# Altium footprint library Discrete_semiconductors.PcbLib: 48 footprints (part 1 of 3)
Each footprint in its own frame and in the unit in brackets; x right, y up, seen from the top. Pads: shape width x height; smd on the part's side, far side on the other; paste and mask are expansions set on the pad; w line width, h text height; cw(c..) or ccw(c..) is an arc to the next point about the centre after c.
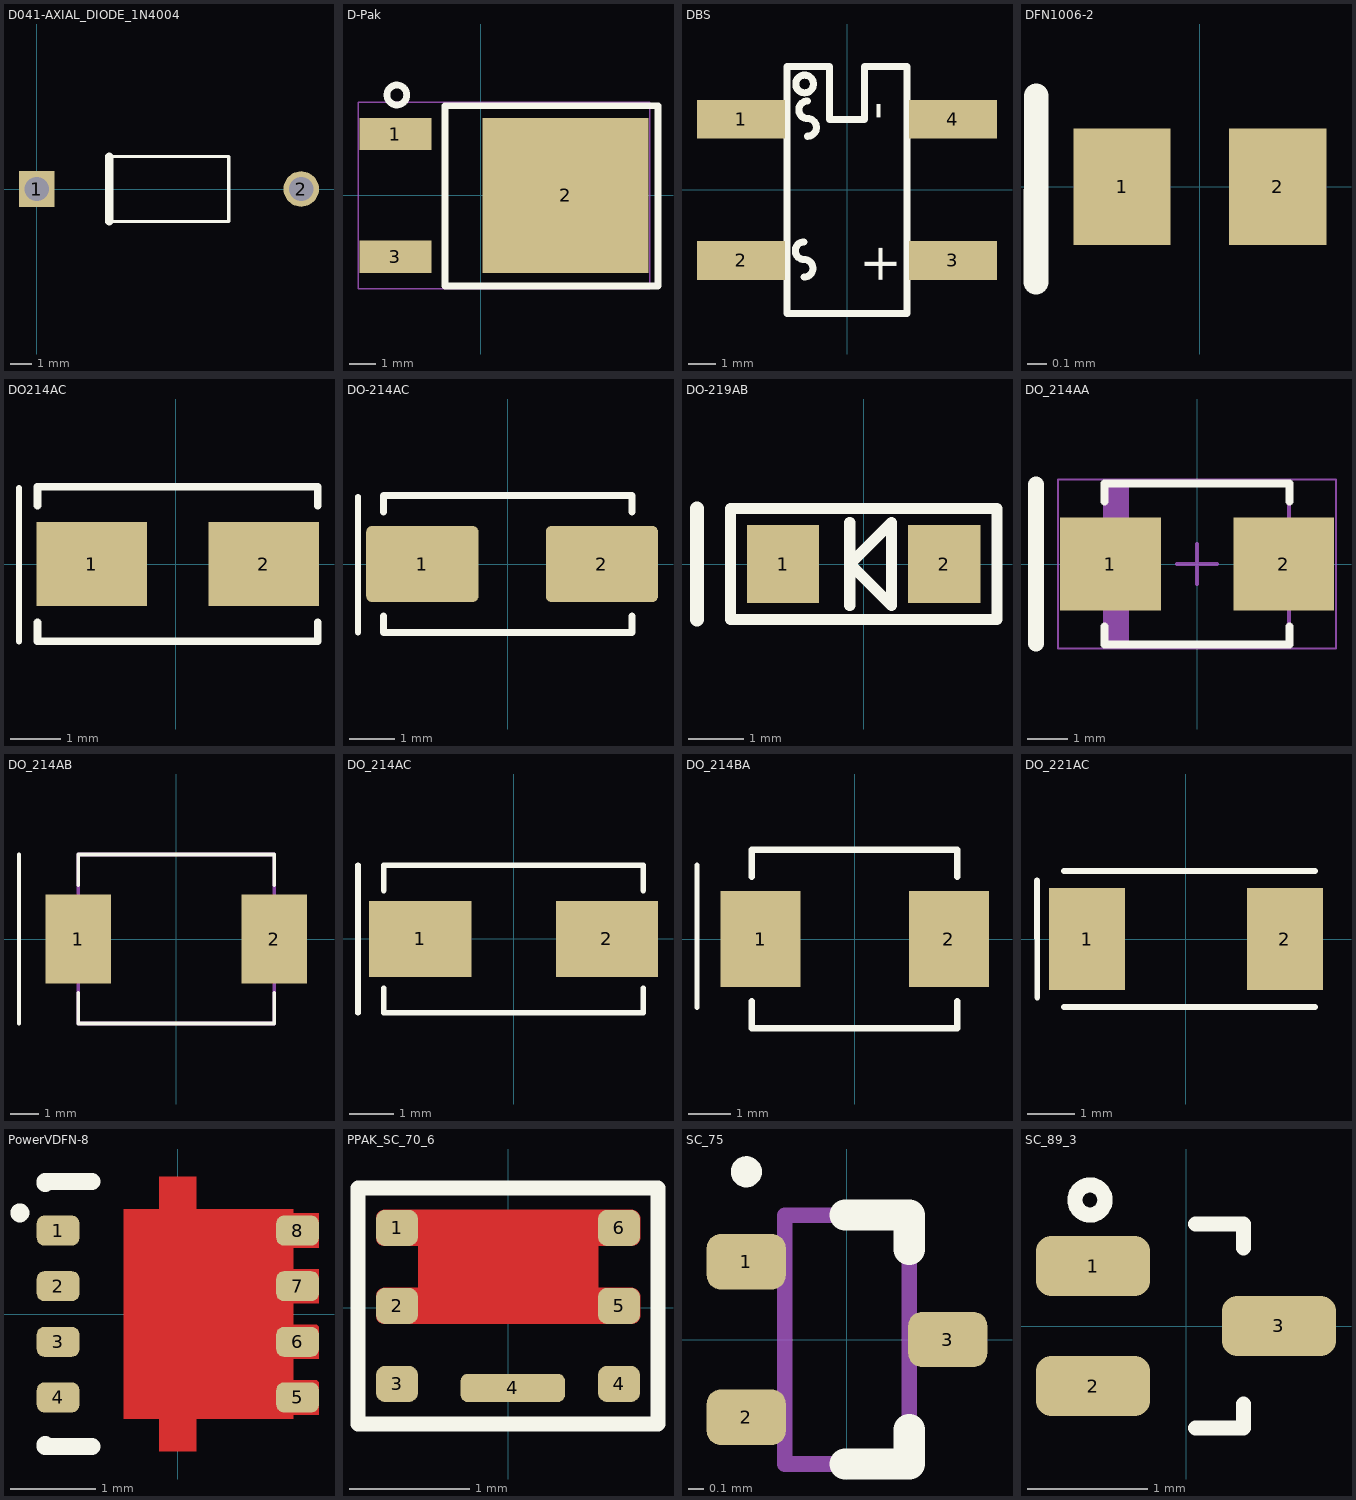
[diagram p0: the footprints below, top view; thin cyan lines are the x and y axes]

## D041-AXIAL_DIODE_1N4004 [mil] "/ 20231112 / J.Jaramillo"
pads (2):
  rect 64x64 / inner round 60 / far side rect 64x64 hole 44 paste-32 mask+0: 1(0,0)
  round 64 / inner round 60 / far side round 64 hole 44 paste-32 mask+0: 2(475.59,0)
Top Overlay:
  lines w6: 130.3,-58.5 345.3,-58.5 345.3,58.5 130.3,58.5
  lines w15: 130.3,-58.5 130.3,58.5
3D body "CR_1N4005_ONS.step": height 107.05, standoff -100, extent -17,-53.6 492.6,53.6

## D-Pak [mm] "/20200127/V-A.Patino"
pads (3):
  rect 2.7x1.2 smd: 1(-3.175,2.29) 3(-3.175,-2.29)
  rect 6.2x5.8 smd: 2(3.175,0)
Top Overlay:
  circle w0.254: c-3.125,3.75 r0.372
  lines w0.254: -1.325,-3.375 6.625,-3.375 6.625,3.35 -0.275,3.35 -1.325,3.35 -1.325,-3.375
Mechanical 15:
  lines w0.05: -4.575,-3.475 6.325,-3.475 6.325,3.475 -4.575,3.475 -4.575,-3.475
  lines w0.1: 0.375,0 1.375,0 ; 0.875,-0.5 0.875,0.5
3D body "DPAK229P990X239-3L.step": height 2.39, standoff 0, extent -4.09,-3.375 5.815,3.375

## DBS [mm] "/20200109/V-A.Patino"
pads (4):
  rect 3.173x1.4 smd: 1(-3.81,2.54) 2(-3.81,-2.54) 3(3.81,-2.54) 4(3.81,2.54)
Top Overlay:
  lines w0: -0.635,4.445 -0.635,2.54 0.635,2.54 0.635,4.445
  lines w0.254: -1.543,-3.14 ccw(c-1.543,-2.822) -1.543,-2.505 cw(c-1.543,-2.187) -1.543,-1.87 ; -1.416,1.93 ccw(c-1.416,2.248) -1.416,2.565 cw(c-1.416,2.883) -1.416,3.2 ; -2.159,-4.445 2.159,-4.445 2.159,4.445 0.635,4.445 0.635,2.54 -0.635,2.54 -0.635,4.445 -2.159,4.445 -2.159,-4.445 ; -1.524,3.492 cw(c-1.524,3.81) -1.524,4.127 cw(c-1.524,3.81) -1.524,3.492
  text "-" at 0.635,3.175 h1.33
  text "+" at 0.635,-1.905 h1.33
3D body "SOP520P1040X286-4L.step": height 2.87, standoff 0, extent -5.2,-4.25 5.2,4.25

## DFN1006-2 [mm] "0402/ 20211220 / N-A.Potosi"
height 1.02
pads (2):
  rect 0.5x0.6 smd: 1(-0.4,0) 2(0.4,0)
Top Overlay:
  lines w0.127: -0.843,-0.49 -0.842,0.468
3D body "User Library-DFN1006-2.step": height 0.48, standoff -0.02, extent -0.5,-0.3 0.5,0.3

## DO214AC [mil] "/ 20221206/ J.Jaramillo"
pads (2):
  rect 86x65 smd paste+0 mask+0: 1(-65.62,0) 2(68.38,0)
Top Overlay:
  lines w5: -122.05,-60 -122.05,59.06
  lines w6: -107.62,-45.6 -107.62,-60 110.38,-60 110.38,-45.6 ; -107.62,45.6 -107.62,60 110.38,60 110.38,45.6
3D body "DO-214AC_VIS.step": height 92.01, standoff 0, extent -102.64,-55 105.39,55

## DO-214AC [mm] "/ 20240513 / J.Jaramillo"
pads (2):
  rrect15% 2.5x1.7 smd paste+0 mask+0: 1(-1.902,0) 2(2.098,0)
Top Overlay:
  lines w0.127: -3.335,-1.524 -3.335,1.5
  lines w0.152: -2.769,-1.158 -2.769,-1.524 2.769,-1.524 2.769,-1.158 ; -2.769,1.158 -2.769,1.524 2.769,1.524 2.769,1.158
3D body "DO-214AC_VIS.step": height 2.34, standoff 0, extent -2.642,-1.397 2.642,1.397

## DO-219AB [mm] "/ SMF / 20190401 / L-A Boulanger"
height 1
pads (2):
  rect 1.3x1.4 smd: 1(-1.45,0) 2(1.45,0)
Top Overlay:
  lines w0.2: -0.25,-0.75 -0.25,0.75 ; -2.4,-1 -2.4,1 2.4,1 2.4,0 2.4,-1 -2.4,-1 ; -0.25,0 0.5,0.75 0.5,-0.75 -0.25,0
  lines w0.254: -3,-1 -3,1

## DO_214AA [mm] "SMB / C-A.Serna.A / 20190709"
pads (2):
  rect 2.5x2.3 smd: 1(-2.15,0) 2(2.15,0)
Top Overlay:
  lines w0.2: -2.3,-1.55 -2.3,-2 2.3,-2 2.3,-1.55 ; -2.3,1.55 -2.3,2 2.3,2 2.3,1.55
  lines w0.4: -4,-1.97 -4,1.97
Mechanical 1:
  rectangle: -2.3,-2 -1.685,1.94
  lines w0.1: -2.285,-1.97 2.285,-1.97 2.285,1.97 -2.285,1.97 -2.285,-1.97
Mechanical 15:
  lines w0.05: -3.45,-2.1 -3.45,2.1 3.45,2.1 3.45,-2.1 -3.45,-2.1
  lines w0.1: -0.5,0 0.5,0 ; 0,-0.5 0,0.5
3D body "DIOM4336X25L.step": height 2.5, standoff 0, extent -2.505,-1.97 2.505,1.97

## DO_214AB [mm] "DO_214AB/20220518/F-A.Ospina"
pads (2):
  rect 2.29x3.12 smd: 1(-3.43,0) 2(3.43,0)
Top Overlay:
  lines w0.127: -5.5,-2.953 -5.5,2.953 ; -3.427,-1.88 -3.427,-2.953 3.427,-2.953 3.427,-1.88 ; -3.427,1.88 -3.427,2.953 3.427,2.953 3.427,1.88
Top 3D Body (Mech13):
  lines w0.127: -3.427,-2.953 -3.427,2.953 3.427,2.953 3.427,-2.953 -3.427,-2.953
3D body "1SMC5352.STEP": height 2.62, standoff 0, extent -3.97,-2.952 3.97,2.953

## DO_214AC [mm] "SMA / 20190225 / C-A.Serna.A"
pads (2):
  rect 2.3x1.7 smd: 1(-2.1,0) 2(2.1,0)
Top Overlay:
  lines w0.127: -3.5,-1.663 -3.5,1.663 ; -2.923,-1.105 -2.923,-1.663 2.919,-1.663 2.919,-1.105 ; -2.923,1.092 -2.923,1.651 ; -2.923,1.663 2.919,1.663 ; 2.919,1.092 2.919,1.651
3D body "Diode_TVS-DO-214AC.step": height 2.3, standoff 0.02, extent -2.743,-1.397 2.743,1.397

## DO_214BA [mil] "/ 20220728 / F-A.Ospina"
pads (2):
  rect 74x89 smd: 1(-87,0) 2(87,0)
Top Overlay:
  lines w5: -145.67,-62.99 -145.67,67.95
  lines w6: -95,-57.6 -95,-82.5 95,-82.5 95,-57.6 ; -95,57.6 -95,82.5 95,82.5 95,57.6
3D body "User Library-DO-214BA.STEP": height 118.21, standoff 1.97, extent -102.44,-52.38 104.26,49.98

## DO_221AC [mm] "/20230220/ N-A.Potosi"
pads (2):
  rect 1.62x2.18 smd: 1(-2.11,0) 2(2.11,0)
Top Overlay:
  lines w0.127: -3.177,1.246 -3.174,-1.246 ; -2.605,-1.448 2.755,-1.448 ; -2.605,1.448 2.755,1.448
3D body "CR_SMA-FLAT-NOTCH_STM.step": height 1.09, standoff 0, extent -2.705,-1.448 2.655,1.448

## PowerVDFN-8 [mm] "20221010 / E.Naranjo"
pads (8):
  rrect50% 0.5x0.35 smd mask+0.05: 1(-1.4,0.975) 2(-1.4,0.325) 3(-1.4,-0.325) 4(-1.4,-0.975)
  rrect50% 0.5x0.35 smd paste+0 mask+0: 5(1.4,-0.975) 6(1.4,-0.325) 7(1.4,0.325) 8(1.4,0.975)
Top Layer:
  region: -0.215,1.605 0.215,1.605 0.215,1.225 1.35,1.225 1.35,1.175 1.65,1.175 1.65,0.775 1.35,0.775 1.35,0.525 1.65,0.525 1.65,0.125 1.35,0.125 1.35,-0.125 1.625,-0.125 1.65,-0.15 1.65,-0.525 1.35,-0.525 1.35,-0.775 1.625,-0.775 1.65,-0.8 1.65,-1.175 1.35,-1.175 1.35,-1.225 0.215,-1.225 0.215,-1.605 -0.215,-1.605 -0.215,-1.225 -0.63,-1.225 -0.63,1.225 -0.215,1.225
Top Overlay:
  circle w0.2: c-1.847,1.182 r0.01
  lines w0.2: -1.55,-1.525 -1.55,-1.55 -1.005,-1.55 ; -1.55,1.525 -1.55,1.55 -1.005,1.55
Top Paste:
  region: 0.361,0.102 1.061,0.102 1.061,1.052 0.361,1.052
  region: -0.539,0.102 0.161,0.102 0.161,1.052 -0.539,1.052
  region: 0.361,-1.048 1.061,-1.048 1.061,-0.098 0.361,-0.098
  region: -0.539,-1.048 0.161,-1.048 0.161,-0.098 -0.539,-0.098
Top Solder:
  region: -0.215,1.605 0.215,1.605 0.215,1.225 1.35,1.225 1.35,1.175 1.65,1.175 1.65,0.775 1.35,0.775 1.35,0.525 1.65,0.525 1.65,0.125 1.35,0.125 1.35,-0.125 1.625,-0.125 1.65,-0.15 1.65,-0.525 1.35,-0.525 1.35,-0.775 1.625,-0.775 1.65,-0.8 1.65,-1.175 1.35,-1.175 1.35,-1.225 0.215,-1.225 0.215,-1.605 -0.215,-1.605 -0.215,-1.225 -0.63,-1.225 -0.63,1.225 -0.215,1.225
3D body "Trans_Alpha_&_Omega_Semiconductor_AONR21321_eec.STEP": height 0.25, standoff 0, extent -1.74,-1.695 1.76,1.715

## PPAK_SC_70_6 [mm] "20220818 / E.Naranjo"
pads (7):
  rrect50% 0.35x0.3 smd mask+0.051: 1(-0.925,0.667) 2(-0.925,0.016) 3(-0.925,-0.634) 4(0.925,-0.634) 5(0.925,0.016) 6(0.925,0.667)
  rrect50% 0.87x0.235 smd mask+0.051: 4(0.04,-0.666)
Top Layer:
  region: 1.025,0.817 1.04,0.817 1.067,0.805 1.089,0.784 1.1,0.756 1.1,0.741 1.1,0.592 1.1,0.577 1.089,0.549 1.067,0.528 1.04,0.517 1.025,0.517 0.75,0.517 0.75,0.166 1.025,0.166 1.04,0.166 1.067,0.155 1.089,0.134 1.1,0.106 1.1,0.091 1.1,-0.058 1.1,-0.073 1.089,-0.101 1.067,-0.122 1.04,-0.133 1.025,-0.133 -1.025,-0.133 -1.04,-0.133 -1.067,-0.122 -1.089,-0.101 -1.1,-0.073 -1.1,-0.058 -1.1,0.091 -1.1,0.106 -1.089,0.134 -1.067,0.155 -1.04,0.166 -1.025,0.166 -0.75,0.166 -0.75,0.517 -1.025,0.517 -1.04,0.517 -1.067,0.528 -1.089,0.549 -1.1,0.577 -1.1,0.592 -1.1,0.741 -1.1,0.756 -1.089,0.784 -1.067,0.805 -1.04,0.817 -1.025,0.817
Top Overlay:
  lines w0.127: -1.25,-0.967 -1.25,1 1.25,1 1.25,-0.967 -1.25,-0.967
Top Paste:
  region: 1.025,0.817 1.04,0.817 1.067,0.805 1.089,0.784 1.1,0.756 1.1,0.741 1.1,0.592 1.1,0.577 1.089,0.549 1.067,0.528 1.04,0.517 1.025,0.517 0.75,0.517 0.75,0.166 1.025,0.166 1.04,0.166 1.067,0.155 1.089,0.134 1.1,0.106 1.1,0.091 1.1,-0.058 1.1,-0.073 1.089,-0.101 1.067,-0.122 1.04,-0.133 1.025,-0.133 -1.025,-0.133 -1.04,-0.133 -1.067,-0.122 -1.089,-0.101 -1.1,-0.073 -1.1,-0.058 -1.1,0.091 -1.1,0.106 -1.089,0.134 -1.067,0.155 -1.04,0.166 -1.025,0.166 -0.75,0.166 -0.75,0.517 -1.025,0.517 -1.04,0.517 -1.067,0.528 -1.089,0.549 -1.1,0.577 -1.1,0.592 -1.1,0.741 -1.1,0.756 -1.089,0.784 -1.067,0.805 -1.04,0.817 -1.025,0.817
Top Solder:
  region: 1.025,0.817 1.04,0.817 1.067,0.805 1.089,0.784 1.1,0.756 1.1,0.741 1.1,0.592 1.1,0.577 1.089,0.549 1.067,0.528 1.04,0.517 1.025,0.517 0.75,0.517 0.75,0.166 1.025,0.166 1.04,0.166 1.067,0.155 1.089,0.134 1.1,0.106 1.1,0.091 1.1,-0.058 1.1,-0.073 1.089,-0.101 1.067,-0.122 1.04,-0.133 1.025,-0.133 -1.025,-0.133 -1.04,-0.133 -1.067,-0.122 -1.089,-0.101 -1.1,-0.073 -1.1,-0.058 -1.1,0.091 -1.1,0.106 -1.089,0.134 -1.067,0.155 -1.04,0.166 -1.025,0.166 -0.75,0.166 -0.75,0.517 -1.025,0.517 -1.04,0.517 -1.067,0.528 -1.089,0.549 -1.1,0.577 -1.1,0.592 -1.1,0.741 -1.1,0.756 -1.089,0.784 -1.067,0.805 -1.04,0.817 -1.025,0.817
3D body "PowerPAK SC70-6L.stp": height 0.81, standoff 0.01, extent -1.075,-1.009 1.075,1.042

## SC_75 [mil] "/20210419/V-A.Patino"
pads (3):
  rrect50% 20x14.02 smd: 1(-25.49,19.69) 2(-25.49,-19.68) 3(25.49,0)
Top Overlay:
  circle w3.94: c-25.47,42.44 r1.97
  lines w7.87: -0.5,-31.5 15.75,-31.5 15.75,-22.76 ; -0.5,31.5 15.75,31.5 15.75,22.76
Mechanical 1:
  lines w3.94: -15.75,-31.5 15.75,-31.5 15.75,31.5 -15.75,31.5 -15.75,-31.5
3D body: height 35.43, standoff 0, extent -15.75,-31.5 15.75,31.5

## SC_89_3 [mm] "SC-89, SOT-490 / 20190225 / C-A.Serna.A"
height 0.85
pads (3):
  rrect50% 0.95x0.5 smd: 1(-0.775,0.5) 2(-0.775,-0.5) 3(0.775,0)
Top Overlay:
  circle w0.127: c-0.8,1.05 r0.125
  lines w0.127: 0.08,-0.85 0.48,-0.85 0.48,-0.65 ; 0.08,0.85 0.48,0.85 0.48,0.65
3D body "TRANS_DTA124EE_ROM.step": height 0.81, standoff 0, extent -0.822,-0.8 0.982,0.8